# Altium schematic symbol library AD8605.SchLib: 1 symbol
Pins are listed as number, name and electrical type; pins without a type are passive.

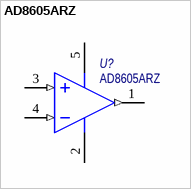
[diagram p0: symbol AD8605ARZ]

## AD8605ARZ
designator U?
Precision, Low Noise, CMOS, Rail-to-Rail, / Input/Output Operational Amplifiers; Потребление, Вт: 0,005; ComponentLink2Description: Datasheet; ComponentLink2URL: https://www.analog.com/media/en/technical-documentation/data-sheets/AD8605_8606_8608.pdf; Назначение: Precision, Low Noise, CMOS, Rail-to-Rail,; Datasheet: https://www.analog.com/media/en/technical-documentation/data-sheets/AD8605_8606_8608.pdf; Наименование: AD8605ARZ
footprint SOT23-5
pins: 1 OUT (out), 2 -V (power), 3 +IN (in), 4 -IN  (in), 5 +V (power)